# Altium schematic symbol library Demo.SchLib: 4 symbols
Pins are listed as number, name and electrical type; pins without a type are passive.

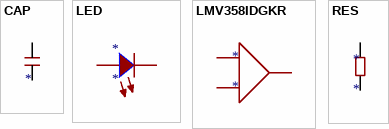
[diagram p0: symbols CAP to RES]

## CAP
designator *
pins: 1, 2

## LED
designator *
pins: 5, 6

## LMV358IDGKR
designator *
pins: 7 +, 8, 9

## RES
designator *
pins: 1, 2